# Altium footprint library Conn_Molex_105164-0001_eec_0.PcbLib: 1 footprints
Each footprint in its own frame and in the unit in brackets; x right, y up, seen from the top. Pads: shape width x height; smd on the part's side, far side on the other; paste and mask are expansions set on the pad; w line width, h text height; cw(c..) or ccw(c..) is an arc to the next point about the centre after c.
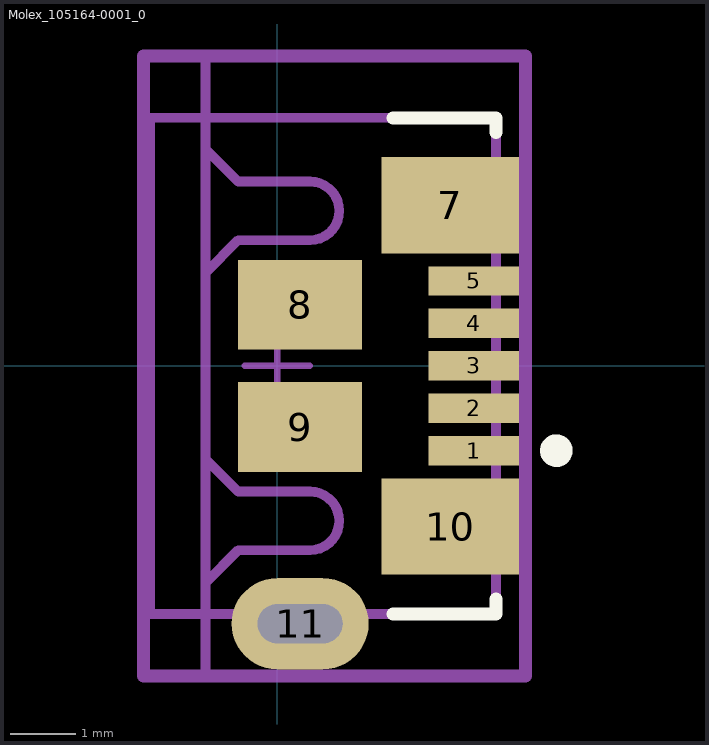
[diagram p0: the footprint, top view; thin cyan lines are the x and y axes]

## Molex_105164-0001_0 [mm]
pads (10):
  rect 1.38x0.45 smd paste+0 mask+0: 1(3.01,-1.3) 2(3.01,-0.65) 3(3.01,0) 4(3.01,0.65) 5(3.01,1.3)
  rect 2.1x1.475 smd paste+0 mask+0: 7(2.65,2.462) 10(2.65,-2.462)
  rect 1.9x1.375 smd paste+0 mask+0: 8(0.35,0.937) 9(0.35,-0.937)
  oval 2.1x1.4 hole 0.6 slot 1.3 at 0 deg paste-1000 mask+0: 11(0.35,-3.95)
Top Overlay:
  circle w0.25: c4.275,-1.3 r0.125
  lines w0.2: 1.775,-3.8 3.35,-3.8 3.35,-3.575 ; 1.775,3.8 3.35,3.8 3.35,3.575
Mechanical 2:
  lines w0.15: -1.1,-3.325 -0.6,-2.825 0.5,-2.825 ccw(c0.499,-2.375) 0.5,-1.925 -0.6,-1.925 -1.1,-1.425 ; -1.1,1.425 -0.6,1.925 0.5,1.925 ccw(c0.499,2.375) 0.5,2.825 -0.6,2.825 -1.1,3.325
Mechanical 10:
  lines w0.2: -2.05,-4.75 3.8,-4.75 3.8,4.75 -2.05,4.75 -2.05,-4.75
  text ".Designator" at 0.875,0 h1
Mechanical 12:
  lines w0.15: -1.1,-4.75 -1.1,4.75 ; -1.95,-3.8 3.35,-3.8 3.35,3.8 -1.95,3.8 -1.95,-3.8
Mechanical 15:
  lines w0.1: -0.5,0 0.5,0 ; 0,-0.5 0,0.5
  lines w0.2: -2.05,-4.75 3.8,-4.75 3.8,4.75 -2.05,4.75 -2.05,-4.75
3D body "Conn_Molex_105164-0001_eec.STEP": height 0.25, standoff 0, extent -2.05,-4.75 3.8,4.75